# EAGLE library part GENERIC-SIP-6_ (library newNVSL)
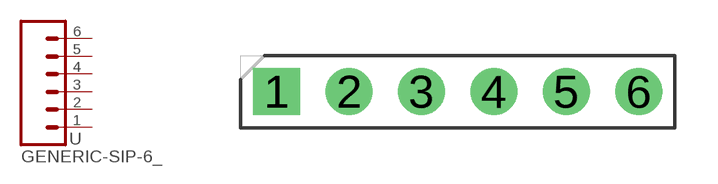
[diagram p0: symbol with the pads of HDRV6W63P254_6X1_1524X254H838; footprint HDRV6W63P254_6X1_1524X254H838]

Designator prefix -

## GENERIC-SIP-6_2.54-SPACE-VERTICAL  [HDRV6W63P254_6X1_1524X254H838]
1  1  pas
2  2  pas
3  3  pas
4  4  pas
5  5  pas
6  6  pas

## Footprint HDRV6W63P254_6X1_1524X254H838 (pad centres in mm)
drill 1.1 pad 1.65 square: 1 0,0
drill 1.1 pad 1.65: 2 2.54,0; 3 5.08,0; 4 7.62,0; 5 10.16,0; 6 12.7,0